# Altium integrated library WCAP-PSHP_rev15a.intlib: 36 symbols
Pins are listed as number, name and electrical type; pins without a type are passive.

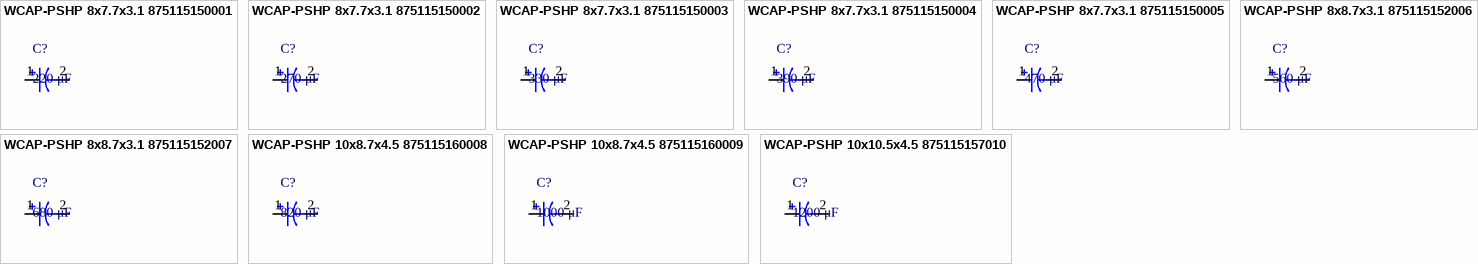
[diagram p0: symbols WCAP-PSHP 8x7.7x3.1 875115150001 to WCAP-PSHP 10x10.5x4.5 875115157010]

## WCAP-PSHP 8x7.7x3.1 875115150001
designator C?, comment 220 μF
WCAP-PSHP Aluminum Polymer Capacitors , 220 μF; + / - 20%; 6,3 V , 8 x 7,7; Manufacturer: Wurth Elektronik; partNo: 875115150001; E-mail: libraries@we-online.com; Characteristics: Aluminum Polymer Capacitors;Recommended soldering: Reflow;Operating temperature: –55 °C to +105 °C;Miniaturized product series;Low ESR at high frequency range;High permissible ripple current;Load life: 2000 h @ +105 °C; ComponentLink1Description: Manufacturer; ComponentLink1URL: http://www.we-online.com; ComponentLink2Description: Datasheet; ComponentLink2URL: http://katalog.we-online.de/pbs/datasheet/875115150001.pdf; Created by: Karrer Zheng; Created Date: 5/13/2015; Capacitance: 220 μF; Application: Low voltage port filtering, appplid to high-end switching power supply, PC(desktop,laptop ),industrial computer, VGA card, server power, charger, TV, digital set-top box,DC-DC power module, game machine etc which consume large current with high speed circuit.
footprint WCAP-PSHP 8x7.7x3.1
pins: 1, 2

## WCAP-PSHP 8x7.7x3.1 875115150002
designator C?, comment 270 μF
WCAP-PSHP Aluminum Polymer Capacitors , 270 μF; + / - 20%; 6,3 V , 8 x 7,7; Manufacturer: Wurth Elektronik; partNo: 875115150002; E-mail: libraries@we-online.com; Characteristics: Aluminum Polymer Capacitors;Recommended soldering: Reflow;Operating temperature: –55 °C to +105 °C;Miniaturized product series;Low ESR at high frequency range;High permissible ripple current;Load life: 2000 h @ +105 °C; ComponentLink1Description: Manufacturer; ComponentLink1URL: http://www.we-online.com; ComponentLink2Description: Datasheet; ComponentLink2URL: http://katalog.we-online.de/pbs/datasheet/875115150002.pdf; Created by: Karrer Zheng; Created Date: 5/13/2015; Capacitance: 270 μF; Application: Low voltage port filtering, appplid to high-end switching power supply, PC(desktop,laptop ),industrial computer, VGA card, server power, charger, TV, digital set-top box,DC-DC power module, game machine etc which consume large current with high speed circuit.
footprint WCAP-PSHP 8x7.7x3.1
pins: 1, 2

## WCAP-PSHP 8x7.7x3.1 875115150003
designator C?, comment 330 μF
WCAP-PSHP Aluminum Polymer Capacitors , 330 μF; + / - 20%; 6,3 V , 8 x 7,7; Manufacturer: Wurth Elektronik; partNo: 875115150003; E-mail: libraries@we-online.com; Characteristics: Aluminum Polymer Capacitors;Recommended soldering: Reflow;Operating temperature: –55 °C to +105 °C;Miniaturized product series;Low ESR at high frequency range;High permissible ripple current;Load life: 2000 h @ +105 °C; ComponentLink1Description: Manufacturer; ComponentLink1URL: http://www.we-online.com; ComponentLink2Description: Datasheet; ComponentLink2URL: http://katalog.we-online.de/pbs/datasheet/875115150003.pdf; Created by: Karrer Zheng; Created Date: 5/13/2015; Capacitance: 330 μF; Application: Low voltage port filtering, appplid to high-end switching power supply, PC(desktop,laptop ),industrial computer, VGA card, server power, charger, TV, digital set-top box,DC-DC power module, game machine etc which consume large current with high speed circuit.
footprint WCAP-PSHP 8x7.7x3.1
pins: 1, 2

## WCAP-PSHP 8x7.7x3.1 875115150004
designator C?, comment 390 μF
WCAP-PSHP Aluminum Polymer Capacitors , 390 μF; + / - 20%; 6,3 V , 8 x 7,7; Manufacturer: Wurth Elektronik; partNo: 875115150004; E-mail: libraries@we-online.com; Characteristics: Aluminum Polymer Capacitors;Recommended soldering: Reflow;Operating temperature: –55 °C to +105 °C;Miniaturized product series;Low ESR at high frequency range;High permissible ripple current;Load life: 2000 h @ +105 °C; ComponentLink1Description: Manufacturer; ComponentLink1URL: http://www.we-online.com; ComponentLink2Description: Datasheet; ComponentLink2URL: http://katalog.we-online.de/pbs/datasheet/875115150004.pdf; Created by: Karrer Zheng; Created Date: 5/13/2015; Capacitance: 390 μF; Application: Low voltage port filtering, appplid to high-end switching power supply, PC(desktop,laptop ),industrial computer, VGA card, server power, charger, TV, digital set-top box,DC-DC power module, game machine etc which consume large current with high speed circuit.
footprint WCAP-PSHP 8x7.7x3.1
pins: 1, 2

## WCAP-PSHP 8x7.7x3.1 875115150005
designator C?, comment 470 μF
WCAP-PSHP Aluminum Polymer Capacitors , 470 μF; + / - 20%; 6,3 V , 8 x 7,7; Manufacturer: Wurth Elektronik; partNo: 875115150005; E-mail: libraries@we-online.com; Characteristics: Aluminum Polymer Capacitors;Recommended soldering: Reflow;Operating temperature: –55 °C to +105 °C;Miniaturized product series;Low ESR at high frequency range;High permissible ripple current;Load life: 2000 h @ +105 °C; ComponentLink1Description: Manufacturer; ComponentLink1URL: http://www.we-online.com; ComponentLink2Description: Datasheet; ComponentLink2URL: http://katalog.we-online.de/pbs/datasheet/875115150005.pdf; Created by: Karrer Zheng; Created Date: 5/13/2015; Capacitance: 470 μF; Application: Low voltage port filtering, appplid to high-end switching power supply, PC(desktop,laptop ),industrial computer, VGA card, server power, charger, TV, digital set-top box,DC-DC power module, game machine etc which consume large current with high speed circuit.
footprint WCAP-PSHP 8x7.7x3.1
pins: 1, 2

## WCAP-PSHP 8x8.7x3.1 875115152006
designator C?, comment 560 μF
WCAP-PSHP Aluminum Polymer Capacitors , 560 μF; + / - 20%; 6,3 V , 8 x 8,7; Manufacturer: Wurth Elektronik; partNo: 875115152006; E-mail: libraries@we-online.com; Characteristics: Aluminum Polymer Capacitors;Recommended soldering: Reflow;Operating temperature: –55 °C to +105 °C;Miniaturized product series;Low ESR at high frequency range;High permissible ripple current;Load life: 2000 h @ +105 °C; ComponentLink1Description: Manufacturer; ComponentLink1URL: http://www.we-online.com; ComponentLink2Description: Datasheet; ComponentLink2URL: http://katalog.we-online.de/pbs/datasheet/875115152006.pdf; Created by: Karrer Zheng; Created Date: 5/13/2015; Capacitance: 560 μF; Application: Low voltage port filtering, appplid to high-end switching power supply, PC(desktop,laptop ),industrial computer, VGA card, server power, charger, TV, digital set-top box,DC-DC power module, game machine etc which consume large current with high speed circuit.
footprint WCAP-PSHP 8x8.7x3.1
pins: 1, 2

## WCAP-PSHP 8x8.7x3.1 875115152007
designator C?, comment 680 μF
WCAP-PSHP Aluminum Polymer Capacitors , 680 μF; + / - 20%; 6,3 V , 8 x 8,7; Manufacturer: Wurth Elektronik; partNo: 875115152007; E-mail: libraries@we-online.com; Characteristics: Aluminum Polymer Capacitors;Recommended soldering: Reflow;Operating temperature: –55 °C to +105 °C;Miniaturized product series;Low ESR at high frequency range;High permissible ripple current;Load life: 2000 h @ +105 °C; ComponentLink1Description: Manufacturer; ComponentLink1URL: http://www.we-online.com; ComponentLink2Description: Datasheet; ComponentLink2URL: http://katalog.we-online.de/pbs/datasheet/875115152007.pdf; Created by: Karrer Zheng; Created Date: 5/13/2015; Capacitance: 680 μF; Application: Low voltage port filtering, appplid to high-end switching power supply, PC(desktop,laptop ),industrial computer, VGA card, server power, charger, TV, digital set-top box,DC-DC power module, game machine etc which consume large current with high speed circuit.
footprint WCAP-PSHP 8x8.7x3.1
pins: 1, 2

## WCAP-PSHP 10x8.7x4.5 875115160008
designator C?, comment 820 μF
WCAP-PSHP Aluminum Polymer Capacitors , 820 μF; + / - 20%; 6,3 V , 10 x 8,7; Manufacturer: Wurth Elektronik; partNo: 875115160008; E-mail: libraries@we-online.com; Characteristics: Aluminum Polymer Capacitors;Recommended soldering: Reflow;Operating temperature: –55 °C to +105 °C;Miniaturized product series;Low ESR at high frequency range;High permissible ripple current;Load life: 2000 h @ +105 °C; ComponentLink1Description: Manufacturer; ComponentLink1URL: http://www.we-online.com; ComponentLink2Description: Datasheet; ComponentLink2URL: http://katalog.we-online.de/pbs/datasheet/875115160008.pdf; Created by: Karrer Zheng; Created Date: 5/13/2015; Capacitance: 820 μF; Application: Low voltage port filtering, appplid to high-end switching power supply, PC(desktop,laptop ),industrial computer, VGA card, server power, charger, TV, digital set-top box,DC-DC power module, game machine etc which consume large current with high speed circuit.
footprint WCAP-PSHP 10x8.7x4.5
pins: 1, 2

## WCAP-PSHP 10x8.7x4.5 875115160009
designator C?, comment 1000 μF
WCAP-PSHP Aluminum Polymer Capacitors , 1000 μF; + / - 20%; 6,3 V , 10 x 8,7; Manufacturer: Wurth Elektronik; partNo: 875115160009; E-mail: libraries@we-online.com; Characteristics: Aluminum Polymer Capacitors;Recommended soldering: Reflow;Operating temperature: –55 °C to +105 °C;Miniaturized product series;Low ESR at high frequency range;High permissible ripple current;Load life: 2000 h @ +105 °C; ComponentLink1Description: Manufacturer; ComponentLink1URL: http://www.we-online.com; ComponentLink2Description: Datasheet; ComponentLink2URL: http://katalog.we-online.de/pbs/datasheet/875115160009.pdf; Created by: Karrer Zheng; Created Date: 5/13/2015; Capacitance: 1000 μF; Application: Low voltage port filtering, appplid to high-end switching power supply, PC(desktop,laptop ),industrial computer, VGA card, server power, charger, TV, digital set-top box,DC-DC power module, game machine etc which consume large current with high speed circuit.
footprint WCAP-PSHP 10x8.7x4.5
pins: 1, 2

## WCAP-PSHP 10x10.5x4.5 875115157010
designator C?, comment 1200 μF
WCAP-PSHP Aluminum Polymer Capacitors , 1200 μF; + / - 20%; 6,3 V , 10 x 10,5; Manufacturer: Wurth Elektronik; partNo: 875115157010; E-mail: libraries@we-online.com; Characteristics: Aluminum Polymer Capacitors;Recommended soldering: Reflow;Operating temperature: –55 °C to +105 °C;Miniaturized product series;Low ESR at high frequency range;High permissible ripple current;Load life: 2000 h @ +105 °C; ComponentLink1Description: Manufacturer; ComponentLink1URL: http://www.we-online.com; ComponentLink2Description: Datasheet; ComponentLink2URL: http://katalog.we-online.de/pbs/datasheet/875115157010.pdf; Created by: Karrer Zheng; Created Date: 5/13/2015; Capacitance: 1200 μF; Application: Low voltage port filtering, appplid to high-end switching power supply, PC(desktop,laptop ),industrial computer, VGA card, server power, charger, TV, digital set-top box,DC-DC power module, game machine etc which consume large current with high speed circuit.
footprint WCAP-PSHP 10x10.5x4.5
pins: 1, 2


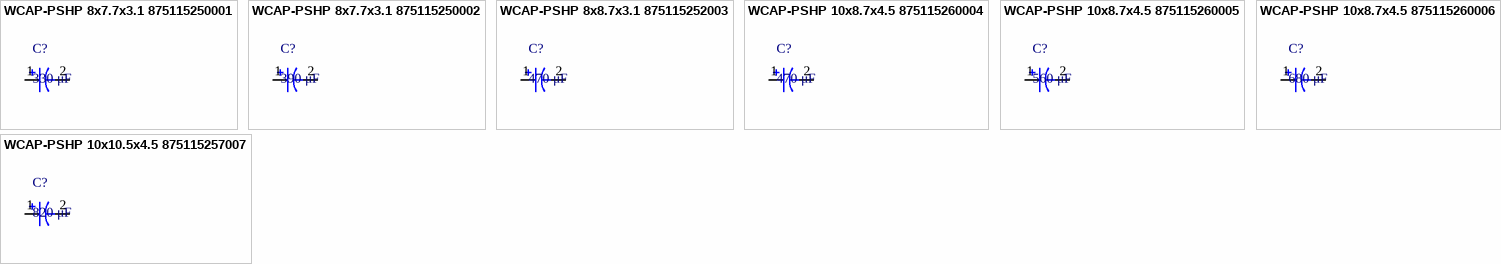
[diagram p1: symbols WCAP-PSHP 8x7.7x3.1 875115250001 to WCAP-PSHP 10x10.5x4.5 875115257007]

## WCAP-PSHP 8x7.7x3.1 875115250001
designator C?, comment 330 μF
WCAP-PSHP Aluminum Polymer Capacitors , 330 μF; + / - 20%; 10 V , 8 x 7,7; Manufacturer: Wurth Elektronik; partNo: 875115250001; E-mail: libraries@we-online.com; Characteristics: Aluminum Polymer Capacitors;Recommended soldering: Reflow;Operating temperature: –55 °C to +105 °C;Miniaturized product series;Low ESR at high frequency range;High permissible ripple current;Load life: 2000 h @ +105 °C; ComponentLink1Description: Manufacturer; ComponentLink1URL: http://www.we-online.com; ComponentLink2Description: Datasheet; ComponentLink2URL: http://katalog.we-online.de/pbs/datasheet/875115250001.pdf; Created by: Karrer Zheng; Created Date: 5/13/2015; Capacitance: 330 μF; Application: Low voltage port filtering, appplid to high-end switching power supply, PC(desktop,laptop ),industrial computer, VGA card, server power, charger, TV, digital set-top box,DC-DC power module, game machine etc which consume large current with high speed circuit.
footprint WCAP-PSHP 8x7.7x3.1
pins: 1, 2

## WCAP-PSHP 8x7.7x3.1 875115250002
designator C?, comment 390 μF
WCAP-PSHP Aluminum Polymer Capacitors , 390 μF; + / - 20%; 10 V , 8 x 7,7; Manufacturer: Wurth Elektronik; partNo: 875115250002; E-mail: libraries@we-online.com; Characteristics: Aluminum Polymer Capacitors;Recommended soldering: Reflow;Operating temperature: –55 °C to +105 °C;Miniaturized product series;Low ESR at high frequency range;High permissible ripple current;Load life: 2000 h @ +105 °C; ComponentLink1Description: Manufacturer; ComponentLink1URL: http://www.we-online.com; ComponentLink2Description: Datasheet; ComponentLink2URL: http://katalog.we-online.de/pbs/datasheet/875115250002.pdf; Created by: Karrer Zheng; Created Date: 5/13/2015; Capacitance: 390 μF; Application: Low voltage port filtering, appplid to high-end switching power supply, PC(desktop,laptop ),industrial computer, VGA card, server power, charger, TV, digital set-top box,DC-DC power module, game machine etc which consume large current with high speed circuit.
footprint WCAP-PSHP 8x7.7x3.1
pins: 1, 2

## WCAP-PSHP 8x8.7x3.1 875115252003
designator C?, comment 470 μF
WCAP-PSHP Aluminum Polymer Capacitors , 470 μF; + / - 20%; 10 V , 8 x 8,7; Manufacturer: Wurth Elektronik; partNo: 875115252003; E-mail: libraries@we-online.com; Characteristics: Aluminum Polymer Capacitors;Recommended soldering: Reflow;Operating temperature: –55 °C to +105 °C;Miniaturized product series;Low ESR at high frequency range;High permissible ripple current;Load life: 2000 h @ +105 °C; ComponentLink1Description: Manufacturer; ComponentLink1URL: http://www.we-online.com; ComponentLink2Description: Datasheet; ComponentLink2URL: http://katalog.we-online.de/pbs/datasheet/875115252003.pdf; Created by: Karrer Zheng; Created Date: 5/13/2015; Capacitance: 470 μF; Application: Low voltage port filtering, appplid to high-end switching power supply, PC(desktop,laptop ),industrial computer, VGA card, server power, charger, TV, digital set-top box,DC-DC power module, game machine etc which consume large current with high speed circuit.
footprint WCAP-PSHP 8x8.7x3.1
pins: 1, 2

## WCAP-PSHP 10x8.7x4.5 875115260004
designator C?, comment 470 μF
WCAP-PSHP Aluminum Polymer Capacitors , 470 μF; + / - 20%; 10 V , 10 x 8,7; Manufacturer: Wurth Elektronik; partNo: 875115260004; E-mail: libraries@we-online.com; Characteristics: Aluminum Polymer Capacitors;Recommended soldering: Reflow;Operating temperature: –55 °C to +105 °C;Miniaturized product series;Low ESR at high frequency range;High permissible ripple current;Load life: 2000 h @ +105 °C; ComponentLink1Description: Manufacturer; ComponentLink1URL: http://www.we-online.com; ComponentLink2Description: Datasheet; ComponentLink2URL: http://katalog.we-online.de/pbs/datasheet/875115260004.pdf; Created by: Karrer Zheng; Created Date: 5/13/2015; Capacitance: 470 μF; Application: Low voltage port filtering, appplid to high-end switching power supply, PC(desktop,laptop ),industrial computer, VGA card, server power, charger, TV, digital set-top box,DC-DC power module, game machine etc which consume large current with high speed circuit.
footprint WCAP-PSHP 10x8.7x4.5
pins: 1, 2

## WCAP-PSHP 10x8.7x4.5 875115260005
designator C?, comment 560 μF
WCAP-PSHP Aluminum Polymer Capacitors , 560 μF; + / - 20%; 10 V , 10 x 8,7; Manufacturer: Wurth Elektronik; partNo: 875115260005; E-mail: libraries@we-online.com; Characteristics: Aluminum Polymer Capacitors;Recommended soldering: Reflow;Operating temperature: –55 °C to +105 °C;Miniaturized product series;Low ESR at high frequency range;High permissible ripple current;Load life: 2000 h @ +105 °C; ComponentLink1Description: Manufacturer; ComponentLink1URL: http://www.we-online.com; ComponentLink2Description: Datasheet; ComponentLink2URL: http://katalog.we-online.de/pbs/datasheet/875115260005.pdf; Created by: Karrer Zheng; Created Date: 5/13/2015; Capacitance: 560 μF; Application: Low voltage port filtering, appplid to high-end switching power supply, PC(desktop,laptop ),industrial computer, VGA card, server power, charger, TV, digital set-top box,DC-DC power module, game machine etc which consume large current with high speed circuit.
footprint WCAP-PSHP 10x8.7x4.5
pins: 1, 2

## WCAP-PSHP 10x8.7x4.5 875115260006
designator C?, comment 680 μF
WCAP-PSHP Aluminum Polymer Capacitors , 680 μF; + / - 20%; 10 V , 10 x 8,7; Manufacturer: Wurth Elektronik; partNo: 875115260006; E-mail: libraries@we-online.com; Characteristics: Aluminum Polymer Capacitors;Recommended soldering: Reflow;Operating temperature: –55 °C to +105 °C;Miniaturized product series;Low ESR at high frequency range;High permissible ripple current;Load life: 2000 h @ +105 °C; ComponentLink1Description: Manufacturer; ComponentLink1URL: http://www.we-online.com; ComponentLink2Description: Datasheet; ComponentLink2URL: http://katalog.we-online.de/pbs/datasheet/875115260006.pdf; Created by: Karrer Zheng; Created Date: 5/13/2015; Capacitance: 680 μF; Application: Low voltage port filtering, appplid to high-end switching power supply, PC(desktop,laptop ),industrial computer, VGA card, server power, charger, TV, digital set-top box,DC-DC power module, game machine etc which consume large current with high speed circuit.
footprint WCAP-PSHP 10x8.7x4.5
pins: 1, 2

## WCAP-PSHP 10x10.5x4.5 875115257007
designator C?, comment 820 μF
WCAP-PSHP Aluminum Polymer Capacitors , 820 μF; + / - 20%; 10 V , 10 x 10,5; Manufacturer: Wurth Elektronik; partNo: 875115257007; E-mail: libraries@we-online.com; Characteristics: Aluminum Polymer Capacitors;Recommended soldering: Reflow;Operating temperature: –55 °C to +105 °C;Miniaturized product series;Low ESR at high frequency range;High permissible ripple current;Load life: 2000 h @ +105 °C; ComponentLink1Description: Manufacturer; ComponentLink1URL: http://www.we-online.com; ComponentLink2Description: Datasheet; ComponentLink2URL: http://katalog.we-online.de/pbs/datasheet/875115257007.pdf; Created by: Karrer Zheng; Created Date: 5/13/2015; Capacitance: 820 μF; Application: Low voltage port filtering, appplid to high-end switching power supply, PC(desktop,laptop ),industrial computer, VGA card, server power, charger, TV, digital set-top box,DC-DC power module, game machine etc which consume large current with high speed circuit.
footprint WCAP-PSHP 10x10.5x4.5
pins: 1, 2


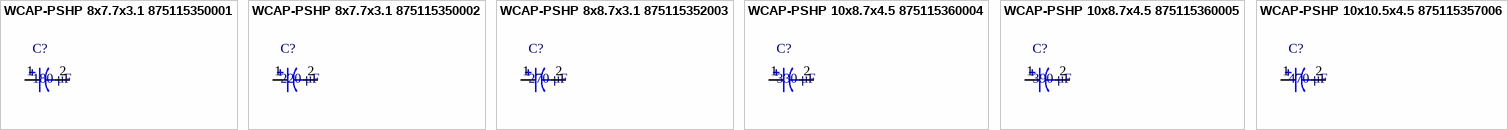
[diagram p2: symbols WCAP-PSHP 8x7.7x3.1 875115350001 to WCAP-PSHP 10x10.5x4.5 875115357006]

## WCAP-PSHP 8x7.7x3.1 875115350001
designator C?, comment 180 μF
WCAP-PSHP Aluminum Polymer Capacitors , 180 μF; + / - 20%; 16 V , 8 x 7,7; Manufacturer: Wurth Elektronik; partNo: 875115350001; E-mail: libraries@we-online.com; Characteristics: Aluminum Polymer Capacitors;Recommended soldering: Reflow;Operating temperature: –55 °C to +105 °C;Miniaturized product series;Low ESR at high frequency range;High permissible ripple current;Load life: 2000 h @ +105 °C; ComponentLink1Description: Manufacturer; ComponentLink1URL: http://www.we-online.com; ComponentLink2Description: Datasheet; ComponentLink2URL: http://katalog.we-online.de/pbs/datasheet/875115350001.pdf; Created by: Karrer Zheng; Created Date: 5/13/2015; Capacitance: 180 μF; Application: Low voltage port filtering, appplid to high-end switching power supply, PC(desktop,laptop ),industrial computer, VGA card, server power, charger, TV, digital set-top box,DC-DC power module, game machine etc which consume large current with high speed circuit.
footprint WCAP-PSHP 8x7.7x3.1
pins: 1, 2

## WCAP-PSHP 8x7.7x3.1 875115350002
designator C?, comment 220 μF
WCAP-PSHP Aluminum Polymer Capacitors , 220 μF; + / - 20%; 16 V , 8 x 7,7; Manufacturer: Wurth Elektronik; partNo: 875115350002; E-mail: libraries@we-online.com; Characteristics: Aluminum Polymer Capacitors;Recommended soldering: Reflow;Operating temperature: –55 °C to +105 °C;Miniaturized product series;Low ESR at high frequency range;High permissible ripple current;Load life: 2000 h @ +105 °C; ComponentLink1Description: Manufacturer; ComponentLink1URL: http://www.we-online.com; ComponentLink2Description: Datasheet; ComponentLink2URL: http://katalog.we-online.de/pbs/datasheet/875115350002.pdf; Created by: Karrer Zheng; Created Date: 5/13/2015; Capacitance: 220 μF; Application: Low voltage port filtering, appplid to high-end switching power supply, PC(desktop,laptop ),industrial computer, VGA card, server power, charger, TV, digital set-top box,DC-DC power module, game machine etc which consume large current with high speed circuit.
footprint WCAP-PSHP 8x7.7x3.1
pins: 1, 2

## WCAP-PSHP 8x8.7x3.1 875115352003
designator C?, comment 270 μF
WCAP-PSHP Aluminum Polymer Capacitors , 270 μF; + / - 20%; 16 V , 8 x 8,7; Manufacturer: Wurth Elektronik; partNo: 875115352003; E-mail: libraries@we-online.com; Characteristics: Aluminum Polymer Capacitors;Recommended soldering: Reflow;Operating temperature: –55 °C to +105 °C;Miniaturized product series;Low ESR at high frequency range;High permissible ripple current;Load life: 2000 h @ +105 °C; ComponentLink1Description: Manufacturer; ComponentLink1URL: http://www.we-online.com; ComponentLink2Description: Datasheet; ComponentLink2URL: http://katalog.we-online.de/pbs/datasheet/875115352003.pdf; Created by: Karrer Zheng; Created Date: 5/13/2015; Capacitance: 270 μF; Application: Low voltage port filtering, appplid to high-end switching power supply, PC(desktop,laptop ),industrial computer, VGA card, server power, charger, TV, digital set-top box,DC-DC power module, game machine etc which consume large current with high speed circuit.
footprint WCAP-PSHP 8x8.7x3.1
pins: 1, 2

## WCAP-PSHP 10x8.7x4.5 875115360004
designator C?, comment 330 μF
WCAP-PSHP Aluminum Polymer Capacitors , 330 μF; + / - 20%; 16 V , 10 x 8,7; Manufacturer: Wurth Elektronik; partNo: 875115360004; E-mail: libraries@we-online.com; Characteristics: Aluminum Polymer Capacitors;Recommended soldering: Reflow;Operating temperature: –55 °C to +105 °C;Miniaturized product series;Low ESR at high frequency range;High permissible ripple current;Load life: 2000 h @ +105 °C; ComponentLink1Description: Manufacturer; ComponentLink1URL: http://www.we-online.com; ComponentLink2Description: Datasheet; ComponentLink2URL: http://katalog.we-online.de/pbs/datasheet/875115360004.pdf; Created by: Karrer Zheng; Created Date: 5/13/2015; Capacitance: 330 μF; Application: Low voltage port filtering, appplid to high-end switching power supply, PC(desktop,laptop ),industrial computer, VGA card, server power, charger, TV, digital set-top box,DC-DC power module, game machine etc which consume large current with high speed circuit.
footprint WCAP-PSHP 10x8.7x4.5
pins: 1, 2

## WCAP-PSHP 10x8.7x4.5 875115360005
designator C?, comment 390 μF
WCAP-PSHP Aluminum Polymer Capacitors , 390 μF; + / - 20%; 16 V , 10 x 8,7; Manufacturer: Wurth Elektronik; partNo: 875115360005; E-mail: libraries@we-online.com; Characteristics: Aluminum Polymer Capacitors;Recommended soldering: Reflow;Operating temperature: –55 °C to +105 °C;Miniaturized product series;Low ESR at high frequency range;High permissible ripple current;Load life: 2000 h @ +105 °C; ComponentLink1Description: Manufacturer; ComponentLink1URL: http://www.we-online.com; ComponentLink2Description: Datasheet; ComponentLink2URL: http://katalog.we-online.de/pbs/datasheet/875115360005.pdf; Created by: Karrer Zheng; Created Date: 5/13/2015; Capacitance: 390 μF; Application: Low voltage port filtering, appplid to high-end switching power supply, PC(desktop,laptop ),industrial computer, VGA card, server power, charger, TV, digital set-top box,DC-DC power module, game machine etc which consume large current with high speed circuit.
footprint WCAP-PSHP 10x8.7x4.5
pins: 1, 2

## WCAP-PSHP 10x10.5x4.5 875115357006
designator C?, comment 470 μF
WCAP-PSHP Aluminum Polymer Capacitors , 470 μF; + / - 20%; 16 V , 10 x 10,5; Manufacturer: Wurth Elektronik; partNo: 875115357006; E-mail: libraries@we-online.com; Characteristics: Aluminum Polymer Capacitors;Recommended soldering: Reflow;Operating temperature: –55 °C to +105 °C;Miniaturized product series;Low ESR at high frequency range;High permissible ripple current;Load life: 2000 h @ +105 °C; ComponentLink1Description: Manufacturer; ComponentLink1URL: http://www.we-online.com; ComponentLink2Description: Datasheet; ComponentLink2URL: http://katalog.we-online.de/pbs/datasheet/875115357006.pdf; Created by: Karrer Zheng; Created Date: 5/13/2015; Capacitance: 470 μF; Application: Low voltage port filtering, appplid to high-end switching power supply, PC(desktop,laptop ),industrial computer, VGA card, server power, charger, TV, digital set-top box,DC-DC power module, game machine etc which consume large current with high speed circuit.
footprint WCAP-PSHP 10x10.5x4.5
pins: 1, 2


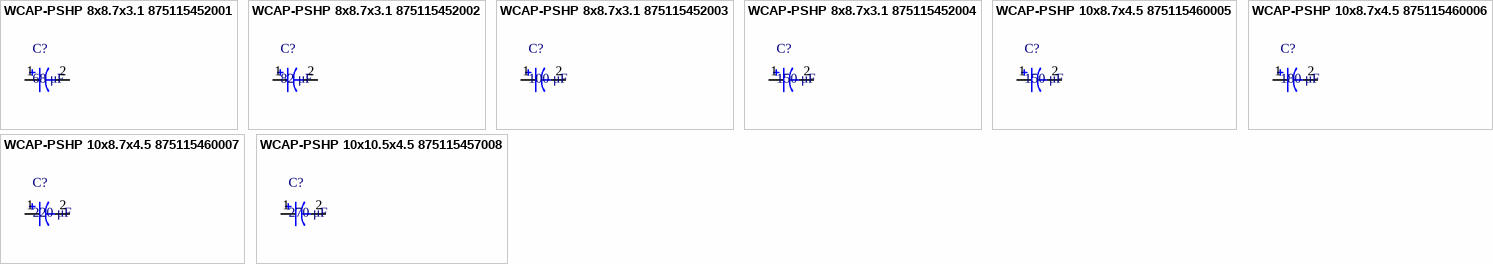
[diagram p3: symbols WCAP-PSHP 8x8.7x3.1 875115452001 to WCAP-PSHP 10x10.5x4.5 875115457008]

## WCAP-PSHP 8x8.7x3.1 875115452001
designator C?, comment 68 μF
WCAP-PSHP Aluminum Polymer Capacitors , 68 μF; + / - 20%; 20 V , 8 x 8,7; Manufacturer: Wurth Elektronik; partNo: 875115452001; E-mail: libraries@we-online.com; Characteristics: Aluminum Polymer Capacitors;Recommended soldering: Reflow;Operating temperature: –55 °C to +105 °C;Miniaturized product series;Low ESR at high frequency range;High permissible ripple current;Load life: 2000 h @ +105 °C; ComponentLink1Description: Manufacturer; ComponentLink1URL: http://www.we-online.com; ComponentLink2Description: Datasheet; ComponentLink2URL: http://katalog.we-online.de/pbs/datasheet/875115452001.pdf; Created by: Karrer Zheng; Created Date: 5/13/2015; Capacitance: 68 μF; Application: Low voltage port filtering, appplid to high-end switching power supply, PC(desktop,laptop ),industrial computer, VGA card, server power, charger, TV, digital set-top box,DC-DC power module, game machine etc which consume large current with high speed circuit.
footprint WCAP-PSHP 8x8.7x3.1
pins: 1, 2

## WCAP-PSHP 8x8.7x3.1 875115452002
designator C?, comment 82 μF
WCAP-PSHP Aluminum Polymer Capacitors , 82 μF; + / - 20%; 20 V , 8 x 8,7; Manufacturer: Wurth Elektronik; partNo: 875115452002; E-mail: libraries@we-online.com; Characteristics: Aluminum Polymer Capacitors;Recommended soldering: Reflow;Operating temperature: –55 °C to +105 °C;Miniaturized product series;Low ESR at high frequency range;High permissible ripple current;Load life: 2000 h @ +105 °C; ComponentLink1Description: Manufacturer; ComponentLink1URL: http://www.we-online.com; ComponentLink2Description: Datasheet; ComponentLink2URL: http://katalog.we-online.de/pbs/datasheet/875115452002.pdf; Created by: Karrer Zheng; Created Date: 5/13/2015; Capacitance: 82 μF; Application: Low voltage port filtering, appplid to high-end switching power supply, PC(desktop,laptop ),industrial computer, VGA card, server power, charger, TV, digital set-top box,DC-DC power module, game machine etc which consume large current with high speed circuit.
footprint WCAP-PSHP 8x8.7x3.1
pins: 1, 2

## WCAP-PSHP 8x8.7x3.1 875115452003
designator C?, comment 100 μF
WCAP-PSHP Aluminum Polymer Capacitors , 100 μF; + / - 20%; 20 V , 8 x 8,7; Manufacturer: Wurth Elektronik; partNo: 875115452003; E-mail: libraries@we-online.com; Characteristics: Aluminum Polymer Capacitors;Recommended soldering: Reflow;Operating temperature: –55 °C to +105 °C;Miniaturized product series;Low ESR at high frequency range;High permissible ripple current;Load life: 2000 h @ +105 °C; ComponentLink1Description: Manufacturer; ComponentLink1URL: http://www.we-online.com; ComponentLink2Description: Datasheet; ComponentLink2URL: http://katalog.we-online.de/pbs/datasheet/875115452003.pdf; Created by: Karrer Zheng; Created Date: 5/13/2015; Capacitance: 100 μF; Application: Low voltage port filtering, appplid to high-end switching power supply, PC(desktop,laptop ),industrial computer, VGA card, server power, charger, TV, digital set-top box,DC-DC power module, game machine etc which consume large current with high speed circuit.
footprint WCAP-PSHP 8x8.7x3.1
pins: 1, 2

## WCAP-PSHP 8x8.7x3.1 875115452004
designator C?, comment 150 μF
WCAP-PSHP Aluminum Polymer Capacitors , 150 μF; + / - 20%; 20 V , 8 x 8,7; Manufacturer: Wurth Elektronik; partNo: 875115452004; E-mail: libraries@we-online.com; Characteristics: Aluminum Polymer Capacitors;Recommended soldering: Reflow;Operating temperature: –55 °C to +105 °C;Miniaturized product series;Low ESR at high frequency range;High permissible ripple current;Load life: 2000 h @ +105 °C; ComponentLink1Description: Manufacturer; ComponentLink1URL: http://www.we-online.com; ComponentLink2Description: Datasheet; ComponentLink2URL: http://katalog.we-online.de/pbs/datasheet/875115452004.pdf; Created by: Karrer Zheng; Created Date: 5/13/2015; Capacitance: 150 μF; Application: Low voltage port filtering, appplid to high-end switching power supply, PC(desktop,laptop ),industrial computer, VGA card, server power, charger, TV, digital set-top box,DC-DC power module, game machine etc which consume large current with high speed circuit.
footprint WCAP-PSHP 8x8.7x3.1
pins: 1, 2

## WCAP-PSHP 10x8.7x4.5 875115460005
designator C?, comment 150 μF
WCAP-PSHP Aluminum Polymer Capacitors , 150 μF; + / - 20%; 20 V , 10 x 8,7; Manufacturer: Wurth Elektronik; partNo: 875115460005; E-mail: libraries@we-online.com; Characteristics: Aluminum Polymer Capacitors;Recommended soldering: Reflow;Operating temperature: –55 °C to +105 °C;Miniaturized product series;Low ESR at high frequency range;High permissible ripple current;Load life: 2000 h @ +105 °C; ComponentLink1Description: Manufacturer; ComponentLink1URL: http://www.we-online.com; ComponentLink2Description: Datasheet; ComponentLink2URL: http://katalog.we-online.de/pbs/datasheet/875115460005.pdf; Created by: Karrer Zheng; Created Date: 5/13/2015; Capacitance: 150 μF; Application: Low voltage port filtering, appplid to high-end switching power supply, PC(desktop,laptop ),industrial computer, VGA card, server power, charger, TV, digital set-top box,DC-DC power module, game machine etc which consume large current with high speed circuit.
footprint WCAP-PSHP 10x8.7x4.5
pins: 1, 2

## WCAP-PSHP 10x8.7x4.5 875115460006
designator C?, comment 180 μF
WCAP-PSHP Aluminum Polymer Capacitors , 180 μF; + / - 20%; 20 V , 10 x 8,7; Manufacturer: Wurth Elektronik; partNo: 875115460006; E-mail: libraries@we-online.com; Characteristics: Aluminum Polymer Capacitors;Recommended soldering: Reflow;Operating temperature: –55 °C to +105 °C;Miniaturized product series;Low ESR at high frequency range;High permissible ripple current;Load life: 2000 h @ +105 °C; ComponentLink1Description: Manufacturer; ComponentLink1URL: http://www.we-online.com; ComponentLink2Description: Datasheet; ComponentLink2URL: http://katalog.we-online.de/pbs/datasheet/875115460006.pdf; Created by: Karrer Zheng; Created Date: 5/13/2015; Capacitance: 180 μF; Application: Low voltage port filtering, appplid to high-end switching power supply, PC(desktop,laptop ),industrial computer, VGA card, server power, charger, TV, digital set-top box,DC-DC power module, game machine etc which consume large current with high speed circuit.
footprint WCAP-PSHP 10x8.7x4.5
pins: 1, 2

## WCAP-PSHP 10x8.7x4.5 875115460007
designator C?, comment 220 μF
WCAP-PSHP Aluminum Polymer Capacitors , 220 μF; + / - 20%; 20 V , 10 x 8,7; Manufacturer: Wurth Elektronik; partNo: 875115460007; E-mail: libraries@we-online.com; Characteristics: Aluminum Polymer Capacitors;Recommended soldering: Reflow;Operating temperature: –55 °C to +105 °C;Miniaturized product series;Low ESR at high frequency range;High permissible ripple current;Load life: 2000 h @ +105 °C; ComponentLink1Description: Manufacturer; ComponentLink1URL: http://www.we-online.com; ComponentLink2Description: Datasheet; ComponentLink2URL: http://katalog.we-online.de/pbs/datasheet/875115460007.pdf; Created by: Karrer Zheng; Created Date: 5/13/2015; Capacitance: 220 μF; Application: Low voltage port filtering, appplid to high-end switching power supply, PC(desktop,laptop ),industrial computer, VGA card, server power, charger, TV, digital set-top box,DC-DC power module, game machine etc which consume large current with high speed circuit.
footprint WCAP-PSHP 10x8.7x4.5
pins: 1, 2

## WCAP-PSHP 10x10.5x4.5 875115457008
designator C?, comment 270 μF
WCAP-PSHP Aluminum Polymer Capacitors , 270 μF; + / - 20%; 20 V , 10 x 10,5; Manufacturer: Wurth Elektronik; partNo: 875115457008; E-mail: libraries@we-online.com; Characteristics: Aluminum Polymer Capacitors;Recommended soldering: Reflow;Operating temperature: –55 °C to +105 °C;Miniaturized product series;Low ESR at high frequency range;High permissible ripple current;Load life: 2000 h @ +105 °C; ComponentLink1Description: Manufacturer; ComponentLink1URL: http://www.we-online.com; ComponentLink2Description: Datasheet; ComponentLink2URL: http://katalog.we-online.de/pbs/datasheet/875115457008.pdf; Created by: Karrer Zheng; Created Date: 5/13/2015; Capacitance: 270 μF; Application: Low voltage port filtering, appplid to high-end switching power supply, PC(desktop,laptop ),industrial computer, VGA card, server power, charger, TV, digital set-top box,DC-DC power module, game machine etc which consume large current with high speed circuit.
footprint WCAP-PSHP 10x10.5x4.5
pins: 1, 2


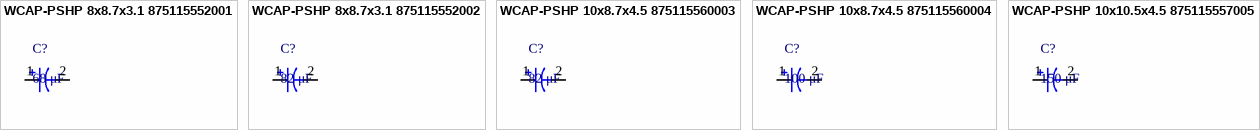
[diagram p4: symbols WCAP-PSHP 8x8.7x3.1 875115552001 to WCAP-PSHP 10x10.5x4.5 875115557005]

## WCAP-PSHP 8x8.7x3.1 875115552001
designator C?, comment 68 μF
WCAP-PSHP Aluminum Polymer Capacitors , 68 μF; + / - 20%; 25 V , 8 x 8,7; Manufacturer: Wurth Elektronik; partNo: 875115552001; E-mail: libraries@we-online.com; Characteristics: Aluminum Polymer Capacitors;Recommended soldering: Reflow;Operating temperature: –55 °C to +105 °C;Miniaturized product series;Low ESR at high frequency range;High permissible ripple current;Load life: 2000 h @ +105 °C; ComponentLink1Description: Manufacturer; ComponentLink1URL: http://www.we-online.com; ComponentLink2Description: Datasheet; ComponentLink2URL: http://katalog.we-online.de/pbs/datasheet/875115552001.pdf; Created by: Karrer Zheng; Created Date: 5/13/2015; Capacitance: 68 μF; Application: Low voltage port filtering, appplid to high-end switching power supply, PC(desktop,laptop ),industrial computer, VGA card, server power, charger, TV, digital set-top box,DC-DC power module, game machine etc which consume large current with high speed circuit.
footprint WCAP-PSHP 8x8.7x3.1
pins: 1, 2

## WCAP-PSHP 8x8.7x3.1 875115552002
designator C?, comment 82 μF
WCAP-PSHP Aluminum Polymer Capacitors , 82 μF; + / - 20%; 25 V , 8 x 8,7; Manufacturer: Wurth Elektronik; partNo: 875115552002; E-mail: libraries@we-online.com; Characteristics: Aluminum Polymer Capacitors;Recommended soldering: Reflow;Operating temperature: –55 °C to +105 °C;Miniaturized product series;Low ESR at high frequency range;High permissible ripple current;Load life: 2000 h @ +105 °C; ComponentLink1Description: Manufacturer; ComponentLink1URL: http://www.we-online.com; ComponentLink2Description: Datasheet; ComponentLink2URL: http://katalog.we-online.de/pbs/datasheet/875115552002.pdf; Created by: Karrer Zheng; Created Date: 5/13/2015; Capacitance: 82 μF; Application: Low voltage port filtering, appplid to high-end switching power supply, PC(desktop,laptop ),industrial computer, VGA card, server power, charger, TV, digital set-top box,DC-DC power module, game machine etc which consume large current with high speed circuit.
footprint WCAP-PSHP 8x8.7x3.1
pins: 1, 2

## WCAP-PSHP 10x8.7x4.5 875115560003
designator C?, comment 82 μF
WCAP-PSHP Aluminum Polymer Capacitors , 82 μF; + / - 20%; 25 V , 10 x 8,7; Manufacturer: Wurth Elektronik; partNo: 875115560003; E-mail: libraries@we-online.com; Characteristics: Aluminum Polymer Capacitors;Recommended soldering: Reflow;Operating temperature: –55 °C to +105 °C;Miniaturized product series;Low ESR at high frequency range;High permissible ripple current;Load life: 2000 h @ +105 °C; ComponentLink1Description: Manufacturer; ComponentLink1URL: http://www.we-online.com; ComponentLink2Description: Datasheet; ComponentLink2URL: http://katalog.we-online.de/pbs/datasheet/875115560003.pdf; Created by: Karrer Zheng; Created Date: 5/13/2015; Capacitance: 82 μF; Application: Low voltage port filtering, appplid to high-end switching power supply, PC(desktop,laptop ),industrial computer, VGA card, server power, charger, TV, digital set-top box,DC-DC power module, game machine etc which consume large current with high speed circuit.
footprint WCAP-PSHP 10x8.7x4.5
pins: 1, 2

## WCAP-PSHP 10x8.7x4.5 875115560004
designator C?, comment 100 μF
WCAP-PSHP Aluminum Polymer Capacitors , 100 μF; + / - 20%; 25 V , 10 x 8,7; Manufacturer: Wurth Elektronik; partNo: 875115560004; E-mail: libraries@we-online.com; Characteristics: Aluminum Polymer Capacitors;Recommended soldering: Reflow;Operating temperature: –55 °C to +105 °C;Miniaturized product series;Low ESR at high frequency range;High permissible ripple current;Load life: 2000 h @ +105 °C; ComponentLink1Description: Manufacturer; ComponentLink1URL: http://www.we-online.com; ComponentLink2Description: Datasheet; ComponentLink2URL: http://katalog.we-online.de/pbs/datasheet/875115560004.pdf; Created by: Karrer Zheng; Created Date: 5/13/2015; Capacitance: 100 μF; Application: Low voltage port filtering, appplid to high-end switching power supply, PC(desktop,laptop ),industrial computer, VGA card, server power, charger, TV, digital set-top box,DC-DC power module, game machine etc which consume large current with high speed circuit.
footprint WCAP-PSHP 10x8.7x4.5
pins: 1, 2

## WCAP-PSHP 10x10.5x4.5 875115557005
designator C?, comment 150 μF
WCAP-PSHP Aluminum Polymer Capacitors , 150 μF; + / - 20%; 25 V , 10 x 10,5; Manufacturer: Wurth Elektronik; partNo: 875115557005; E-mail: libraries@we-online.com; Characteristics: Aluminum Polymer Capacitors;Recommended soldering: Reflow;Operating temperature: –55 °C to +105 °C;Miniaturized product series;Low ESR at high frequency range;High permissible ripple current;Load life: 2000 h @ +105 °C; ComponentLink1Description: Manufacturer; ComponentLink1URL: http://www.we-online.com; ComponentLink2Description: Datasheet; ComponentLink2URL: http://katalog.we-online.de/pbs/datasheet/875115557005.pdf; Created by: Karrer Zheng; Created Date: 5/13/2015; Capacitance: 150 μF; Application: Low voltage port filtering, appplid to high-end switching power supply, PC(desktop,laptop ),industrial computer, VGA card, server power, charger, TV, digital set-top box,DC-DC power module, game machine etc which consume large current with high speed circuit.
footprint WCAP-PSHP 10x10.5x4.5
pins: 1, 2